# Altium schematic symbol library BQ25170.SchLib: 1 symbol
Pins are listed as number, name and electrical type; pins without a type are passive.

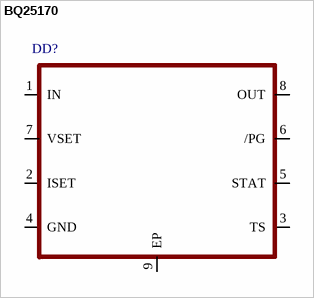
[diagram p0: symbol BQ25170]

## BQ25170
designator DD?
pins: 1 IN, 2 ISET, 3 TS, 4 GND, 5 STAT, 6 /PG, 7 VSET, 8 OUT, 9 EP